# Altium footprint library diodes.PcbLib: 41 footprints (part 2 of 3)
Each footprint in its own frame and in the unit in brackets; x right, y up, seen from the top. Pads: shape width x height; smd on the part's side, far side on the other; paste and mask are expansions set on the pad; w line width, h text height; cw(c..) or ccw(c..) is an arc to the next point about the centre after c.
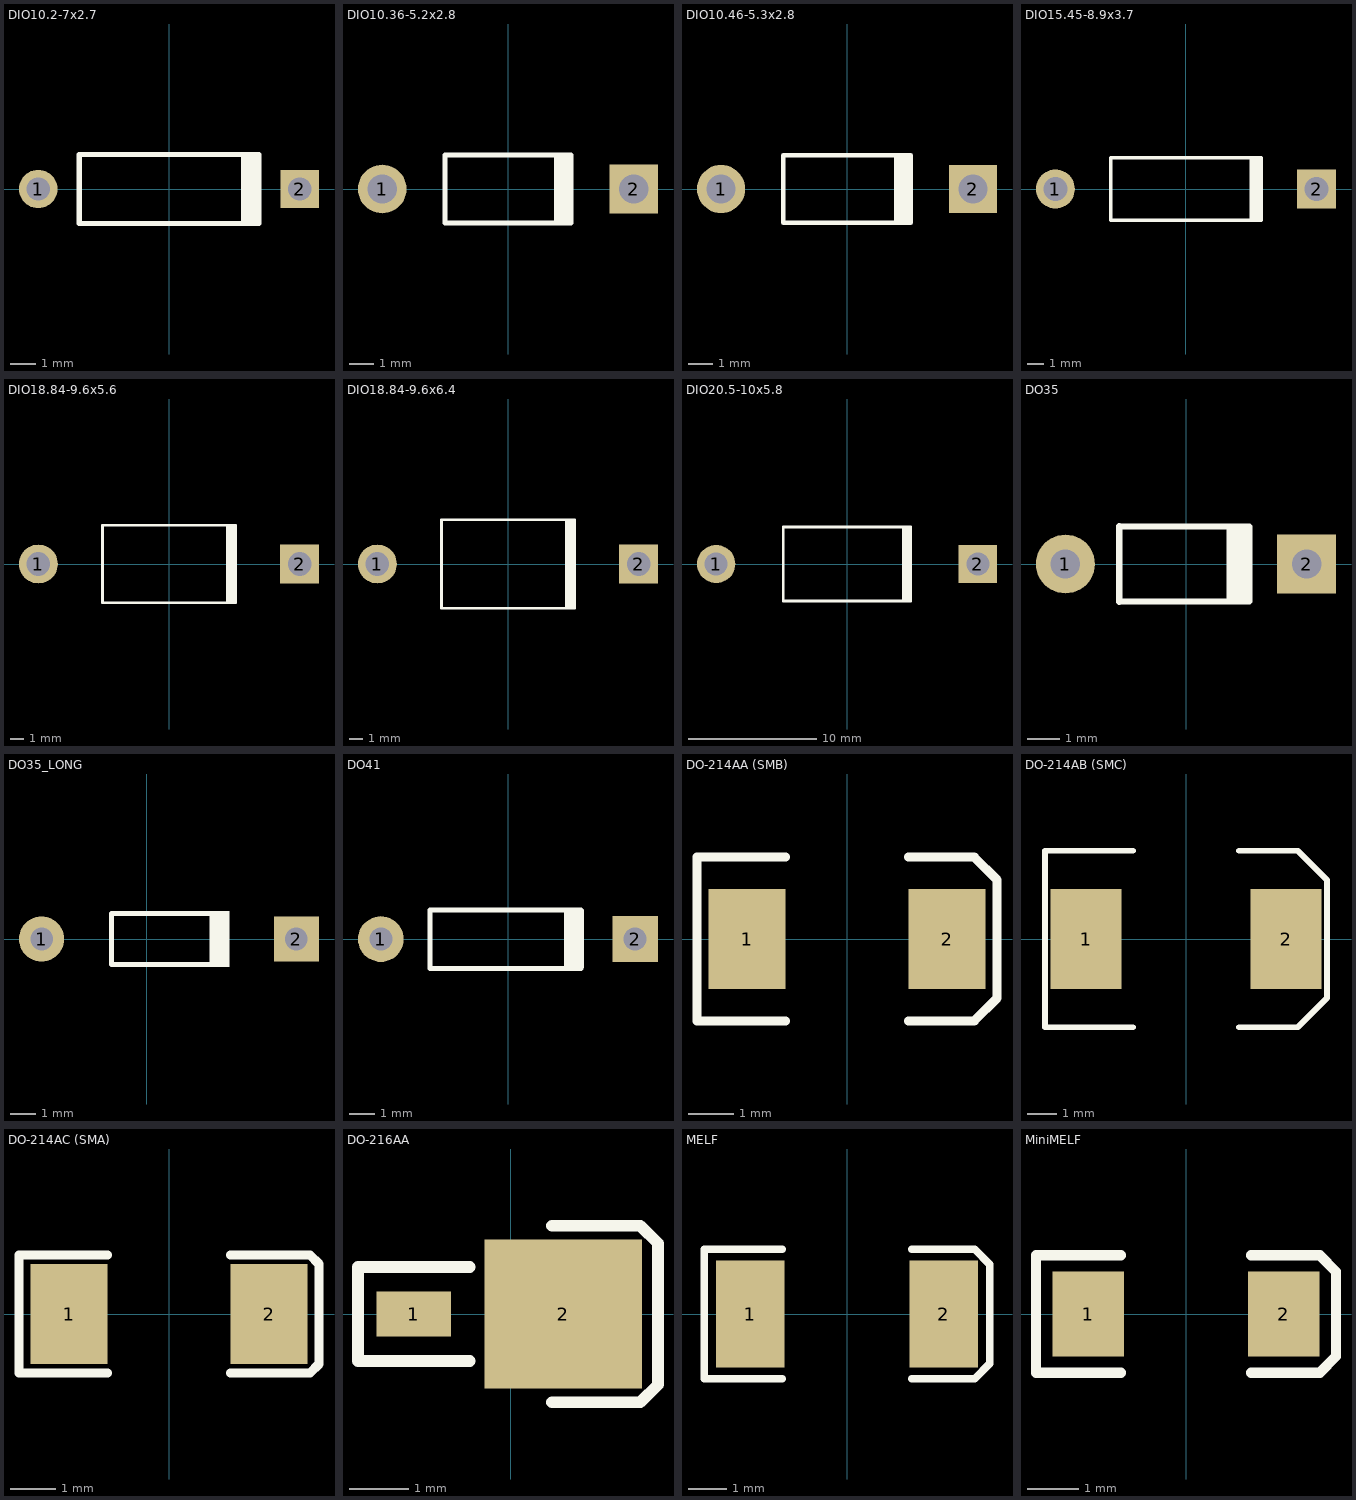
[diagram p1: the footprints below, top view; thin cyan lines are the x and y axes]

## DIO10.2-7x2.7 [mm] "Diode, Axial; Body 7 x 2.7 mm (LxDia. max), Lead Dia. 0.53 mm (max)"
height 2.7
pads (2):
  round 1.5 hole 0.9: 1(-5.1,0)
  rect 1.5x1.5 hole 0.9: 2(5.1,0)
Top Overlay:
  rectangle: 2.8,-1.35 3.6,1.35
  lines w0.2: 3.5,-1.35 -3.5,-1.35 -3.5,1.35 3.5,1.35

## DIO10.36-5.2x2.8 [mm] "Diode, Axial; Body 5.2 x 2.7 mm (LxDia. max), Lead Dia. 0.86 mm (max)"
height 2.8
pads (2):
  round 2 hole 1.2: 1(-5.18,0)
  rect 2x2 hole 1.2: 2(5.18,0)
Top Overlay:
  rectangle: 1.9,-1.4 2.7,1.4
  lines w0.2: 2.6,-1.4 -2.6,-1.4 -2.6,1.4 2.6,1.4

## DIO10.46-5.3x2.8 [mm] "Diode, Axial; Body 5.2 x 2.7 mm (LxDia. max), Lead Dia. 0.86 mm (max)"
height 2.8
pads (2):
  round 2 hole 1.2: 1(-5.23,0)
  rect 2x2 hole 1.2: 2(5.23,0)
Top Overlay:
  rectangle: 1.95,-1.4 2.75,1.4
  lines w0.2: 2.65,-1.4 -2.65,-1.4 -2.65,1.4 2.65,1.4

## DIO15.45-8.9x3.7 [mm] "Diode, Axial; Body 8.9 x 3.7 mm (LxDia. max), Lead Dia. 1.09 mm (max)"
height 3.7
pads (2):
  round 2.3 hole 1.4: 1(-7.725,0)
  rect 2.3x2.3 hole 1.4: 2(7.725,0)
Top Overlay:
  rectangle: 3.75,-1.85 4.55,1.85
  lines w0.2: 4.45,-1.85 -4.45,-1.85 -4.45,1.85 4.45,1.85

## DIO18.84-9.6x5.6 [mm] "Diode, Axial; Body 9.5 x 5.6 mm (LxDia. max), Lead Dia. 1.32 mm (max)"
height 5.6
pads (2):
  round 2.8 hole 1.7: 1(-9.42,0)
  rect 2.8x2.8 hole 1.7: 2(9.42,0)
Top Overlay:
  rectangle: 4.1,-2.8 4.9,2.8
  lines w0.2: 4.8,-2.8 -4.8,-2.8 -4.8,2.8 4.8,2.8

## DIO18.84-9.6x6.4 [mm] "Diode, Axial; Body 9.5 x 6.4 mm (LxDia. max), Lead Dia. 1.32 mm (max)"
height 6.4
pads (2):
  round 2.8 hole 1.7: 1(-9.42,0)
  rect 2.8x2.8 hole 1.7: 2(9.42,0)
Top Overlay:
  rectangle: 4.1,-3.2 4.9,3.2
  lines w0.2: 4.8,-3.2 -4.8,-3.2 -4.8,3.2 4.8,3.2

## DIO20.5-10x5.8 [mm] "Diode, Axial; Body 9.9 x 5.8 mm (LxDia. max), Lead Dia. 1.5 mm (max)"
height 5.8
pads (2):
  round 3 hole 1.8: 1(-10.25,0)
  rect 3x3 hole 1.8: 2(10.25,0)
Top Overlay:
  rectangle: 4.3,-2.9 5.1,2.9
  lines w0.2: 5,-2.9 -5,-2.9 -5,2.9 5,2.9

## DO35 [mm]
pads (2):
  round 1.8 hole 0.9: 1(-3.683,0)
  rect 1.8x1.8 hole 0.9: 2(3.683,0)
Top Overlay:
  rectangle: 1.232,-1.15 2.032,1.15
  lines w0.2: 1.93,-1.143 -2.042,-1.15 -2.042,1.15 1.93,1.143

## DO35_LONG [mm]
pads (2):
  round 1.8 hole 0.9: 1(-4.191,0)
  rect 1.8x1.8 hole 0.9: 2(5.969,0)
Top Overlay:
  rectangle: 2.502,-1.118 3.302,1.118
  lines w0.2: 2.986,-0.951 3.05,-1.016 -1.397,-1.016 -1.397,1.016 3.05,1.016
3D body "SW3dPS-do_35.step": height 2.15, standoff -2.54, extent -4.457,-0.889 6.235,0.864

## DO41 [mm]
pads (2):
  round 1.8 hole 0.9: 1(-5.003,0)
  rect 1.8x1.8 hole 0.9: 2(5.003,0)
Top Overlay:
  rectangle: 2.197,-1.143 2.997,1.157
  lines w0.2: 2.87,-1.15 -3.074,-1.15 -3.074,1.15 2.87,1.15
3D body "SW3dPS-DO-41.step": height 2.86, standoff -2.5, extent -5.426,-1.362 5.434,1.363

## DO-214AA (SMB) [mm]
height 2.4
pads (2):
  rect 1.7x2.2 smd: 1(-2.2,0) 2(2.2,0)
Top Overlay:
  lines w0.2: -1.35,-1.8 -3.3,-1.8 -3.3,1.8 -1.35,1.8 ; 1.35,-1.8 2.8,-1.8 3.3,-1.3 3.3,1.3 2.8,1.8 1.35,1.8
3D body "SW3dPS-DO-214AA SMB.step": height 2.3, standoff 0, extent -2.7,-1.8 2.7,1.8

## DO-214AB (SMC) [mm]
height 2.5
pads (2):
  rect 2.4x3.4 smd: 1(-3.4,0) 2(3.4,0)
Top Overlay:
  lines w0.2: -1.8,-3 -4.8,-3 -4.8,3 -1.8,3 ; 1.8,-3 3.8,-3 4.8,-2 4.8,2 3.8,3 1.8,3
3D body "SW3dPS-DO-214AB SMC.step": height 2.3, standoff 0, extent -3.975,-2.95 3.975,2.95

## DO-214AC (SMA) [mm]
height 2.4
pads (2):
  rect 1.7x2.2 smd: 1(-2.2,0) 2(2.2,0)
Top Overlay:
  lines w0.2: -1.35,-1.3 -3.3,-1.3 -3.3,1.3 -1.35,1.3 ; 1.35,-1.3 3.1,-1.3 3.3,-1.1 ; 1.35,1.3 3.1,1.3 ; 3.1,1.3 3.3,1.1 3.3,-1.1 ; 3.1,1.3 3.1,1.3 ; 3.3,-1.1 3.3,-1.1
3D body "SW3dPS-DO-214AC SMA.step": height 2.4, standoff 0, extent -2.6,-1.3 2.6,1.3

## DO-216AA [mil]
height 45.28
pads (2):
  rect 50x30 smd: 1(-65,0)
  rect 105.12x100 smd: 2(35,0)
Top Overlay:
  lines w7.87: -27.56,-31.5 -102.36,-31.5 -102.36,31.5 -27.56,31.5 ; 27.56,-59.06 86.61,-59.06 98.43,-47.24 98.43,47.24 86.61,59.06 82.68,59.06 27.56,59.06
3D body "User Library-DO-216AA.step": height 39.76, standoff 0, extent -75.79,-40 75.79,38.74

## MELF [mm]
height 2.5
pads (2):
  rect 1.8x2.8 smd: 1(-2.54,0) 2(2.54,0)
Top Overlay:
  lines w0.2: -1.7,-1.7 -3.75,-1.7 -3.75,1.7 -1.7,1.7 ; 1.7,-1.7 3.35,-1.7 3.75,-1.3 3.75,1.3 3.35,1.7 1.7,1.7
3D body "SW3dPS-MELF.STEP": height 2.5, standoff 0, extent -2.551,-1.25 2.449,1.25

## MiniMELF [mil]
height 62.99
pads (2):
  rect 55x65 smd: 1(-75,0) 2(75,0)
Top Overlay:
  lines w7.87: -50,-45 -115,-45 -115,45 -50,45 ; 50,-45 102.5,-45 115,-32.5 115,32.5 102.5,45 50,45
3D body "SW3dPS-minimelf.step": height 55.12, standoff 0, extent -68.89,-27.56 68.9,27.56